# Altium footprint library NewLibrary.PcbLib: 111 footprints (part 4 of 7)
Each footprint in its own frame and in the unit in brackets; x right, y up, seen from the top. Pads: shape width x height; smd on the part's side, far side on the other; paste and mask are expansions set on the pad; w line width, h text height; cw(c..) or ccw(c..) is an arc to the next point about the centre after c.
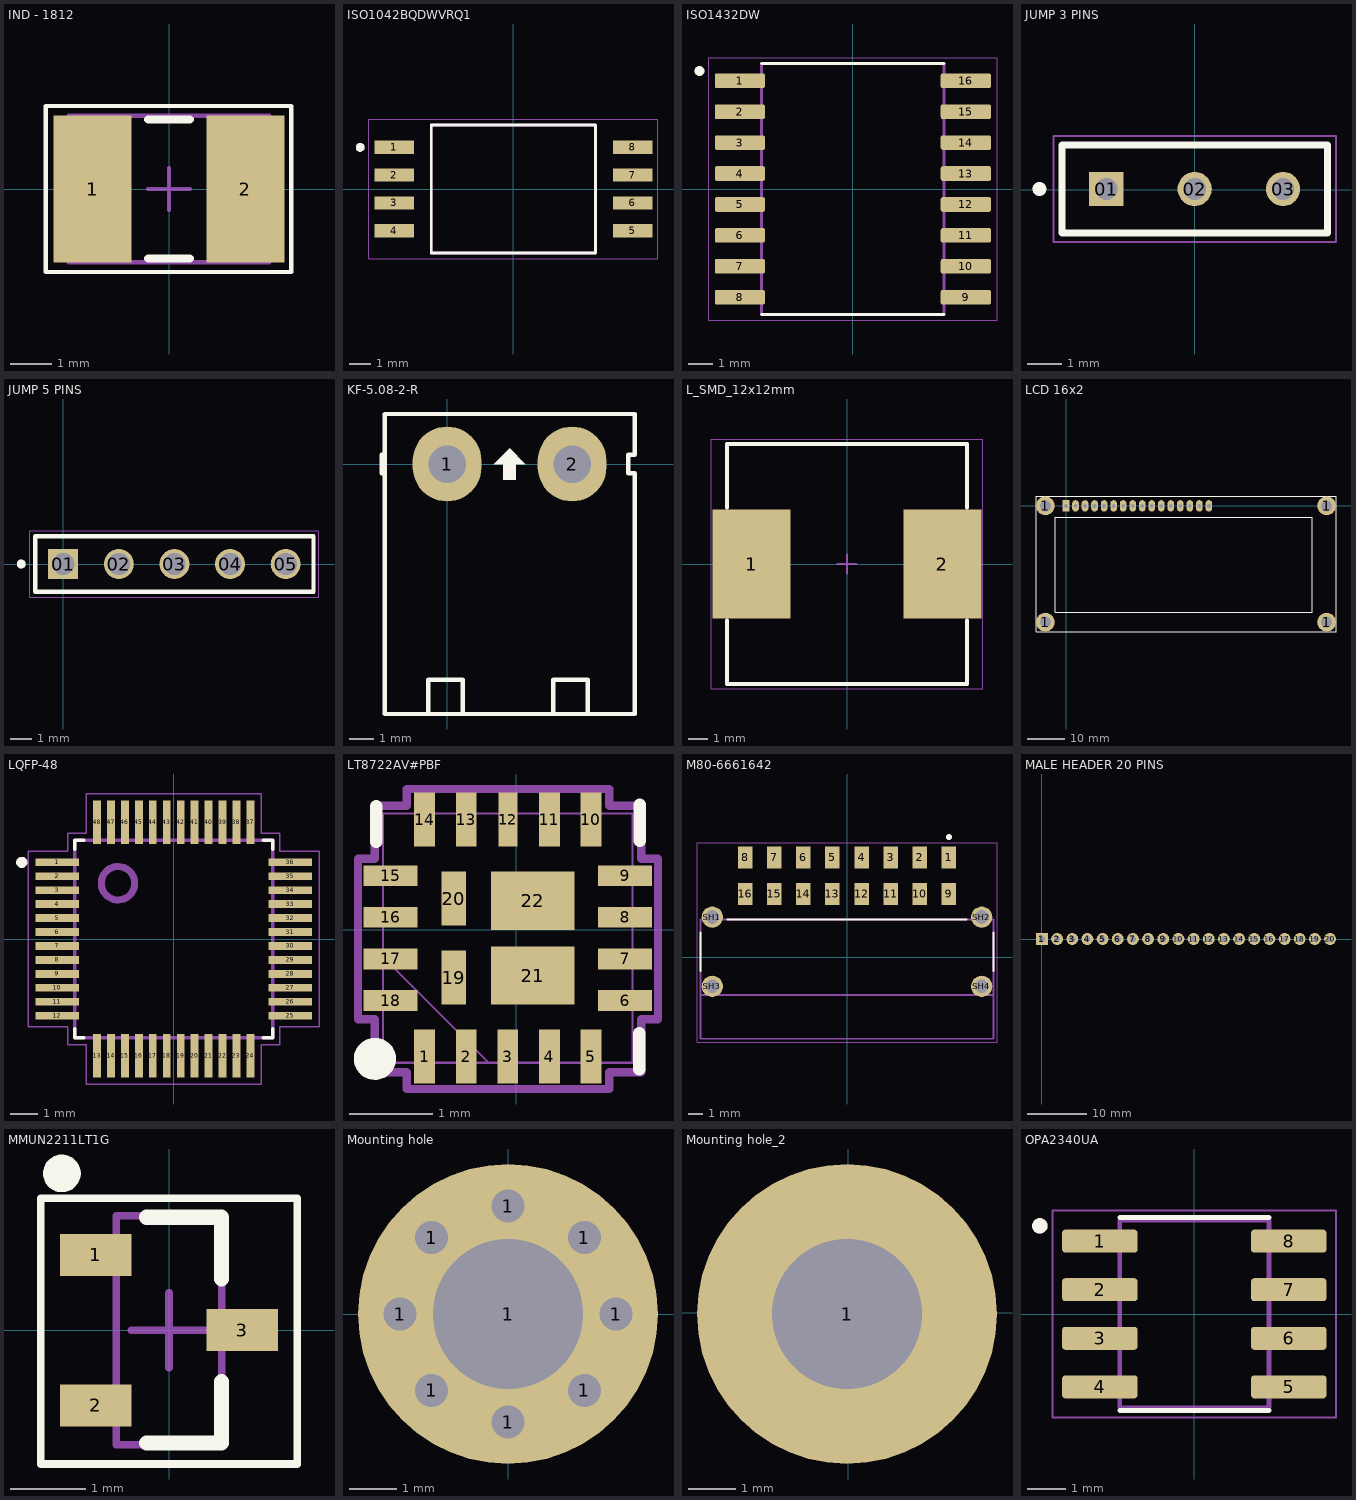
[diagram p3: the footprints below, top view; thin cyan lines are the x and y axes]

## IND - 1812 [mm] "Inductor SMD - 4532 - KEMET"
height 3.5
pads (2):
  rect 1.86x3.52 smd: 1(-1.825,0) 2(1.825,0)
Top Overlay:
  lines w0.1: -2.946,-1.981 2.921,-1.981 2.921,1.981 -2.946,1.981 -2.946,-1.981
  lines w0.2: -0.5,-1.66 0.5,-1.66 ; -0.5,1.66 0.5,1.66
Mechanical 13:
  lines w0.1: -2.4,-1.75 2.4,-1.75 2.4,1.75 -2.4,1.75 -2.4,-1.75
Mechanical 15:
  lines w0.1: -0.5,0 0.5,0 ; 0,-0.5 0,0.5
3D body "IND - 1812.step": height 3.5, standoff 0, extent -2.4,-1.75 2.4,1.75

## ISO1042BQDWVRQ1 [mm] "1/1 Transceiver, Isolated Full CANbus 8-SOIC"
pads (8):
  rect 1.8x0.6 smd mask+0.07: 1(-5.45,1.905) 2(-5.45,0.635) 3(-5.45,-0.635) 4(-5.45,-1.905) 5(5.45,-1.905) 6(5.45,-0.635) 7(5.45,0.635) 8(5.45,1.905)
Top Overlay:
  circle w0.2: c-7,1.9 r0.1
  lines w0.127: -3.75,-2.925 3.75,-2.925 3.75,2.925 -3.75,2.925 -3.75,-2.925
Mechanical 13:
  circle w0.2: c-7,1.9 r0.1
  lines w0.127: -3.75,-2.925 3.75,-2.925 3.75,2.925 -3.75,2.925 -3.75,-2.925
Mechanical 15:
  lines w0.05: -6.6,-3.175 6.6,-3.175 6.6,3.175 -6.6,3.175 -6.6,-3.175
3D body "step_temp.STEP": height 2.8, standoff 0, extent -5.75,-2.925 5.75,2.925

## ISO1432DW [mm] "1/1 Transceiver, Isolated Full RS422, RS485 16-SOIC"
pads (16):
  rrect25% 2.06x0.6 smd: 1(-4.64,4.445) 2(-4.64,3.175) 3(-4.64,1.905) 4(-4.64,0.635) 5(-4.64,-0.635) 6(-4.64,-1.905) 7(-4.64,-3.175) 8(-4.64,-4.445) 9(4.64,-4.445) 10(4.64,-3.175) 11(4.64,-1.905) 12(4.64,-0.635) 13(4.64,0.635) 14(4.64,1.905) 15(4.64,3.175) 16(4.64,4.445)
Top Overlay:
  circle w0.2: c-6.3,4.845 r0.1
  lines w0.127: -3.75,-5.15 3.75,-5.15 ; -3.75,5.15 3.75,5.15
Mechanical 13:
  circle w0.2: c-6.3,4.845 r0.1
  lines w0.127: -3.75,-5.15 -3.75,5.15 3.75,5.15 3.75,-5.15 -3.75,-5.15
Mechanical 15:
  lines w0.05: -5.92,-5.4 -5.92,5.4 5.92,5.4 5.92,-5.4 -5.92,-5.4
3D body "step_temp.STEP": height 2.65, standoff 0, extent -5.15,-5.15 5.15,5.15

## JUMP 3 PINS [mm] "JUMP DIP"
pads (3):
  rect 0.985x0.985 hole 0.635: 01(-2.54,0.025)
  round 0.985 hole 0.635: 02(0,0.025) 03(2.54,0.025)
Top Overlay:
  circle w0.2: c-4.46,0.025 r0.1
  lines w0.2: -3.81,-1.245 -3.81,1.295 3.81,1.295 3.81,-1.245 -3.81,-1.245
Mechanical 13:
  circle w0.2: c-4.46,0.025 r0.1
  lines w0.1: -3.81,-1.245 -3.81,1.295 ; -3.81,-1.245 3.81,-1.245 ; -3.81,-1.245 -3.81,1.295 ; -3.81,1.295 3.81,1.295 ; -3.81,1.295 3.81,1.295 ; 3.81,-1.245 3.81,1.295 ; 3.81,-1.245 3.81,1.295
Mechanical 15:
  lines w0.05: -4.06,-1.495 -4.06,1.545 4.06,1.545 4.06,-1.495 -4.06,-1.495
3D body "HTSW-103-26-G-S.stp": height 8.48, standoff -3.1, extent -3.81,-1.194 3.81,1.295

## JUMP 5 PINS [mm] "JUMP 5 PINS DIP"
pads (5):
  rect 1.37x1.37 hole 1.02: 01(0,0)
  round 1.37 hole 1.02: 02(2.54,0) 03(5.08,0) 04(7.62,0) 05(10.16,0)
Top Overlay:
  circle w0.2: c-1.92,0 r0.1
  lines w0.2: -1.27,-1.27 -1.27,1.27 11.43,1.27 11.43,-1.27 -1.27,-1.27
Mechanical 13:
  circle w0.2: c-1.92,0 r0.1
  lines w0.1: -1.27,-1.27 -1.27,1.27 11.43,1.27 11.43,-1.27 -1.27,-1.27
Mechanical 15:
  lines w0.05: -1.52,-1.52 -1.52,1.52 11.68,1.52 11.68,-1.52 -1.52,-1.52
3D body "TSW-105-23-L-S-LL.stp": height 8.38, standoff -2.92, extent -1.397,-1.27 11.43,1.27

## KF-5.08-2-R [mil]
pads (2):
  oval 110x120 hole 60: 1(0,0) 2(200,0)
Top Overlay:
  region: 100,25 75,0 90,0 90,-25 110,-25 110,0 125,0
  lines w7: -105,-15 -105,15 ; -30,-400 -30,-345 25,-345 25,-400 ; 170,-400 170,-345 225,-345 225,-400 ; -100,-400 300,-400 300,-15 290,-15 290,15 300,15 300,80 180.5,80 -18.5,80 -100,80 -100,-400
3D body "SW3dPS-5EHDR_2P.STEP": height 333.51, standoff -157.48, extent -96.7,-399.22 297,73.22

## L_SMD_12x12mm [mm]
pads (2):
  rect 4x5.6 smd: 1(-4.9,0) 2(4.9,0)
Top Overlay:
  lines w0.2: -6.15,-2.9 -6.15,-6.15 6.15,-6.15 6.15,-2.9 ; -6.15,2.9 -6.15,6.15 6.15,6.15 6.15,2.9
Bottom Assembly:
  lines w0.05: -6.975,-6.4 6.975,-6.4 6.975,6.4 -6.975,6.4 -6.975,-6.4
  lines w0.1: -0.5,0 0.5,0 ; 0,-0.5 0,0.5
Bottom Courtyard:
  lines w0.1: -6.15,-6.15 6.15,-6.15 6.15,6.15 -6.15,6.15 -6.15,-6.15
3D body "L_SMD_12x12.STEP": height 8, standoff 0, extent -6,-6 6,6

## LCD 16x2 [mil] "LCD 16x2 16 Pins"
pads (21):
  round 196.85 hole 118.11: 1(-216.54,-1221.47) 1(-216.54,-1) 1(2736.22,-1221.47) 1(2736.22,-1)
  rect 70x120 hole 39.37: 1(0,-1)
  oval 70x120 hole 39.37: 2(100,-0.98) 3(200,-1) 4(300,-1) 5(400,-1) 6(500,-1) 7(600,-1) 8(700,-1) 9(800,-1) 10(900,-1) 11(1000,-1) 12(1100,-1) 13(1200,-1) 14(1300,-1) 15(1400,-1) 16(1500,-1)
  round 0 all layers, no hole: ""(-216.54,-1)
Top Overlay:
  lines w7.87: -314.96,-1319.9 2834.65,-1319.9 2834.65,97.43 -314.96,97.43 -314.96,-1319.9 ; -115,-1120 2585,-1120 2585,-120 -115,-120 -115,-1120
3D body "jp16.stp": height 468.11, standoff -20.08, extent -48,-53 1548.06,45.43
3D body "socket16.stp": height 276.19, standoff -117.51, extent -47.54,-53.47 1552.46,46.53
3D body "LCD module 16 X 2 backlight.STEP": height 714, standoff 194, extent -309.65,-1338 2859.65,99

## LQFP-48 [mm]
pads (48):
  rect 1.56x0.28 smd: 1(-4.18,2.75) 2(-4.18,2.25) 3(-4.18,1.75) 4(-4.18,1.25) 5(-4.18,0.75) 6(-4.18,0.25) 7(-4.18,-0.25) 8(-4.18,-0.75) 9(-4.18,-1.25) 10(-4.18,-1.75) 11(-4.18,-2.25) 12(-4.18,-2.75) 25(4.18,-2.75) 26(4.18,-2.25) 27(4.18,-1.75) 28(4.18,-1.25) 29(4.18,-0.75) 30(4.18,-0.25) 31(4.18,0.25) 32(4.18,0.75) 33(4.18,1.25) 34(4.18,1.75) 35(4.18,2.25) 36(4.18,2.75)
  rect 0.28x1.56 smd: 13(-2.75,-4.18) 14(-2.25,-4.18) 15(-1.75,-4.18) 16(-1.25,-4.18) 17(-0.75,-4.18) 18(-0.25,-4.18) 19(0.25,-4.18) 20(0.75,-4.18) 21(1.25,-4.18) 22(1.75,-4.18) 23(2.25,-4.18) 24(2.75,-4.18) 37(2.75,4.18) 38(2.25,4.18) 39(1.75,4.18) 40(1.25,4.18) 41(0.75,4.18) 42(0.25,4.18) 43(-0.25,4.18) 44(-0.75,4.18) 45(-1.25,4.18) 46(-1.75,4.18) 47(-2.25,4.18) 48(-2.75,4.18)
Top Overlay:
  circle w0.2: c-5.45,2.75 r0.1
  lines w0.127: -3.55,-3.22 -3.55,-3.55 -3.22,-3.55 ; -3.55,3.22 -3.55,3.55 -3.22,3.55 ; 3.22,-3.55 3.55,-3.55 3.55,-3.22 ; 3.22,3.55 3.55,3.55 3.55,3.22
Mechanical 13:
  drawing of 53 lines, arcs and shapes, not listed
Mechanical 15:
  lines w0.05: -5.21,-3.14 -3.8,-3.14 -3.8,-3.8 -3.14,-3.8 -3.14,-5.21 3.14,-5.21 3.14,-3.8 3.8,-3.8 3.8,-3.14 5.21,-3.14 5.21,3.14 3.8,3.14 3.8,3.8 3.14,3.8 3.14,5.21 -3.14,5.21 -3.14,3.8 -3.8,3.8 -3.8,3.14 -5.21,3.14 -5.21,-3.14
3D body "W5500--3DModel-STEP-56544.STEP": height 1.6, standoff 0, extent -4.5,-4.5 4.5,4.5

## LT8722AV#PBF [mm]
pads (22):
  rect 0.25x0.65 smd paste+0 mask+0: 1(-1.102,-1.527) 2(-0.602,-1.527) 3(-0.102,-1.527) 4(0.398,-1.527) 5(0.898,-1.527) 10(0.898,1.323) 11(0.398,1.323) 13(-0.602,1.323) 14(-1.102,1.323)
  rect 0.65x0.25 smd paste+0 mask+0: 6(1.308,-0.852) 7(1.308,-0.352) 8(1.308,0.148) 9(1.308,0.648) 15(-1.512,0.648) 16(-1.512,0.148) 17(-1.512,-0.352) 18(-1.512,-0.852)
  rect 0.229x0.65 smd paste+0 mask+0: 12(-0.102,1.323)
  rect 0.3x0.65 smd paste+0 mask+0: 19(-0.752,-0.577) 20(-0.752,0.373)
  rect 1x0.7 smd paste+0 mask+0: 21(0.198,-0.552) 22(0.198,0.348)
Top Overlay:
  circle w0.254: c-1.7,-1.553 r0.126
  lines w0.152: -1.683,1.057 -1.683,1.485 ; 1.479,-1.675 1.479,-1.247 ; 1.483,1.071 1.483,1.499
Mechanical 13:
  lines w0.025: -1.6,-0.33 -0.33,-1.6 ; -1.6,-1.6 -1.6,1.397 1.397,1.397 1.397,-1.6 -1.6,-1.6 ; -1.6,-0.991 -1.6,-0.712 -1.6,-0.991 ; -1.6,-0.491 -1.6,-0.212 -1.6,-0.491 ; -1.6,0.009 -1.6,0.288 -1.6,0.009 ; -1.6,0.509 -1.6,0.788 -1.6,0.509 ; -1.241,-1.6 -0.962,-1.6 -1.241,-1.6 ; -1.241,1.397 -0.962,1.397 -1.241,1.397 ; -0.741,-1.6 -0.462,-1.6 -0.741,-1.6 ; -0.741,1.397 -0.462,1.397 -0.741,1.397 ; -0.241,-1.6 0.038,-1.6 -0.241,-1.6 ; -0.241,1.397 0.038,1.397 -0.241,1.397 ; 0.259,-1.6 0.538,-1.6 0.259,-1.6 ; 0.259,1.397 0.538,1.397 0.259,1.397 ; 0.759,-1.6 1.038,-1.6 0.759,-1.6 ; 0.759,1.397 1.038,1.397 0.759,1.397 ; 1.397,-0.991 1.397,-0.712 1.397,-0.991 ; 1.397,-0.491 1.397,-0.212 1.397,-0.491 ; 1.397,0.009 1.397,0.288 1.397,0.009 ; 1.397,0.509 1.397,0.788 1.397,0.509
Mechanical 15:
  lines w0.1: -1.903,-1.078 -1.903,0.854 -1.7,0.854 -1.7,1.488 -1.315,1.488 -1.315,1.691 1.116,1.691 1.116,1.488 1.501,1.488 1.501,0.854 1.704,0.854 1.704,-1.078 1.501,-1.078 1.501,-1.712 1.116,-1.712 1.116,-1.915 -1.315,-1.915 -1.315,-1.712 -1.7,-1.712 -1.7,-1.078 -1.903,-1.078
3D body "LQFN18_3X3X095_ADI.step": height 1.04, standoff 0, extent -1.601,-1.601 1.397,1.397
3D body: height 0.25, standoff 0, extent -0.102,-0.102 0.152,0.152

## M80-6661642 [mm] "Connector Header Surface Mount, Right Angle 16 position 0.079\" (2.00mm)"
pads (20):
  rect 1x1.5 smd: 1(7,6.85) 2(5,6.85) 3(3,6.85) 4(1,6.85) 5(-1,6.85) 6(-3,6.85) 7(-5,6.85) 8(-7,6.85) 9(7,4.35) 10(5,4.35) 11(3,4.35) 12(1,4.35) 13(-1,4.35) 14(-3,4.35) 15(-5,4.35) 16(-7,4.35)
  round 1.458 hole 0.95: SH1(-9.25,2.75) SH2(9.25,2.75) SH3(-9.25,-2) SH4(9.25,-2)
Top Overlay:
  circle w0.2: c7,8.25 r0.1
  lines w0.127: -10.05,-0.95 -10.05,1.7 ; -8.2,2.6 8.2,2.6 ; 10.05,-0.95 10.05,1.7
Mechanical 13:
  circle w0.2: c7,8.25 r0.1
  lines w0.127: -10.05,-2.6 10.05,-2.6 ; -10.05,-2.6 -10.05,2.6 10.05,2.6 10.05,-2.6 ; -10.05,-2.6 -10.05,-5.6 10.05,-5.6 10.05,-2.6
Mechanical 15:
  lines w0.05: -10.3,-5.85 10.3,-5.85 10.3,7.85 -10.3,7.85 -10.3,-5.85
3D body "m80-6661642.x_t": height 6.03, standoff -2.87, extent -9.95,-5.84 9.95,7.11

## MALE HEADER 20 PINS [mm]
pads (20):
  rect 2x2 hole 1.02: 1(0,0)
  round 2 hole 1.02: 2(2.54,0) 3(5.08,0) 4(7.62,0) 5(10.16,0) 6(12.7,0) 7(15.24,0) 8(17.78,0) 9(20.32,0) 10(22.86,0) 11(25.4,0) 12(27.94,0) 13(30.48,0) 14(33.02,0) 15(35.56,0) 16(38.1,0) 17(40.64,0) 18(43.18,0) 19(45.72,0) 20(48.26,0)
3D body "61302011821.stp": height 8.51, standoff -3.09, extent -1.52,-1.25 49.78,1.25

## MMUN2211LT1G [mm] "SOT−23 (TO−236) 2.90x1.30x1.00 1.90P"
height 1.11
pads (3):
  rect 0.95x0.56 smd: 1(-0.975,1) 2(-0.975,-1) 3(0.975,0)
Top Overlay:
  circle w0.25: c-1.422,2.083 r0.125
  lines w0.1: -1.702,-1.778 1.702,-1.778 1.702,1.753 -1.702,1.753 -1.702,-1.778
  lines w0.2: -0.3,-1.5 0.7,-1.5 0.7,-0.68 ; -0.3,1.5 0.7,1.5 0.7,0.68
Mechanical 13:
  lines w0.1: -0.7,-1.52 0.7,-1.52 0.7,1.52 -0.7,1.52 -0.7,-1.52
Mechanical 15:
  lines w0.1: -0.5,0 0.5,0 ; 0,-0.5 0,0.5
3D body "MMUN2211LT1G.step": height 1.11, standoff 0, extent -1.32,-1.52 1.32,1.52

## Mounting hole [mm]
pads (9):
  round 1 hole 0.7: 1(-2.286,0) 1(-1.616,-1.616) 1(-1.616,1.616) 1(0,-2.286) 1(0,2.286) 1(1.616,-1.616) 1(1.616,1.616) 1(2.286,0)
  round 6.35 hole 3.18: 1(0,0)

## Mounting hole_2 [mil]
pads (1):
  round 250 hole 125.2: 1(-1,-1)

## OPA2340UA [mm] "Dual single-supply, rail-to-rail, low power operational amplifier"
pads (8):
  rrect25% 1.97x0.6 smd: 1(-2.47,1.905) 2(-2.47,0.635) 3(-2.47,-0.635) 4(-2.47,-1.905) 5(2.47,-1.905) 6(2.47,-0.635) 7(2.47,0.635) 8(2.47,1.905)
Top Overlay:
  circle w0.2: c-4.04,2.305 r0.1
  lines w0.127: -1.95,-2.525 1.95,-2.525 ; -1.95,2.525 1.95,2.525
Mechanical 13:
  circle w0.2: c-4.04,2.305 r0.1
  lines w0.127: -1.95,-2.452 -1.95,2.452 1.95,2.452 1.95,-2.452 -1.95,-2.452
Mechanical 15:
  lines w0.05: -3.705,-2.702 -3.705,2.702 3.705,2.702 3.705,-2.702 -3.705,-2.702
3D body "OPA2340UA.STEP": height 1.75, standoff 0, extent -3.102,-2.45 2.898,2.45